# Altium footprint library AMPHENOL_UE27-ACX4-X0X.PcbLib: 1 footprints
Each footprint in its own frame and in the unit in brackets; x right, y up, seen from the top. Pads: shape width x height; smd on the part's side, far side on the other; paste and mask are expansions set on the pad; w line width, h text height; cw(c..) or ccw(c..) is an arc to the next point about the centre after c.
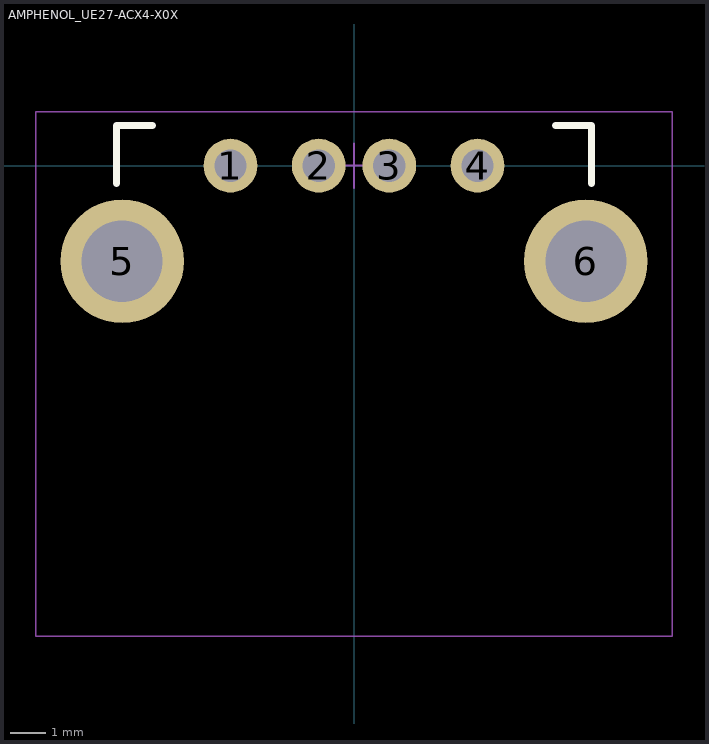
[diagram p0: the footprint, top view; thin cyan lines are the x and y axes]

## AMPHENOL_UE27-ACX4-X0X [mm]
pads (6):
  round 1.524 hole 0.92: 1(-3.5,0) 2(-1,0) 3(1,0) 4(3.5,0)
  round 3.5 hole 2.3: 5(-6.57,-2.71) 6(6.57,-2.71)
Top Overlay:
  lines w0.2: -6.731,-0.508 -6.731,1.143 -5.715,1.143 ; 5.715,1.143 6.731,1.143 6.731,-0.508
Mechanical 15:
  lines w0.05: -0.635,0 0.635,0 ; 0,-0.635 0,0.635 ; -9.017,-13.335 9.017,-13.335 9.017,1.524 -9.017,1.524 -9.017,-13.335
3D body: height 7.6, standoff -3.15, extent -7.421,-12.94 7.421,0.86